# Altium footprint library CMT-1075-SMT-TR.PcbLib: 1 footprints
Each footprint in its own frame and in the unit in brackets; x right, y up, seen from the top. Pads: shape width x height; smd on the part's side, far side on the other; paste and mask are expansions set on the pad; w line width, h text height; cw(c..) or ccw(c..) is an arc to the next point about the centre after c.
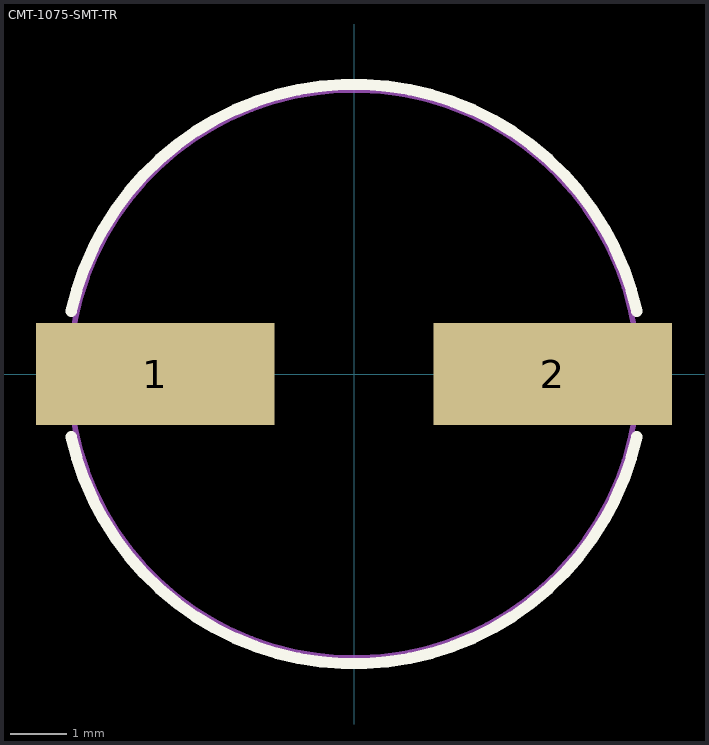
[diagram p0: the footprint, top view; thin cyan lines are the x and y axes]

## CMT-1075-SMT-TR [mm]
pads (2):
  rect 4.2x1.8 smd: 1(-3.5,0) 2(3.5,0)
Top Overlay:
  lines w0.2: -4.979,-1.104 ccw(c0,0) 4.979,-1.104 ; -4.979,1.104 cw(c0,0) 4.979,1.104
Top Assembly:
  circle w0.1: c0,0 r5
  text "'.Designator'" at -3.965,-0.292 h0.7
3D body "Piezo-CUI Devices-???-1075-???-??.STEP": height 3.1, standoff 0, extent -5.5,-5 5.5,5